# Altium schematic symbol library Schlib1.SchLib: 43 symbols
Pins are listed as number, name and electrical type; pins without a type are passive.

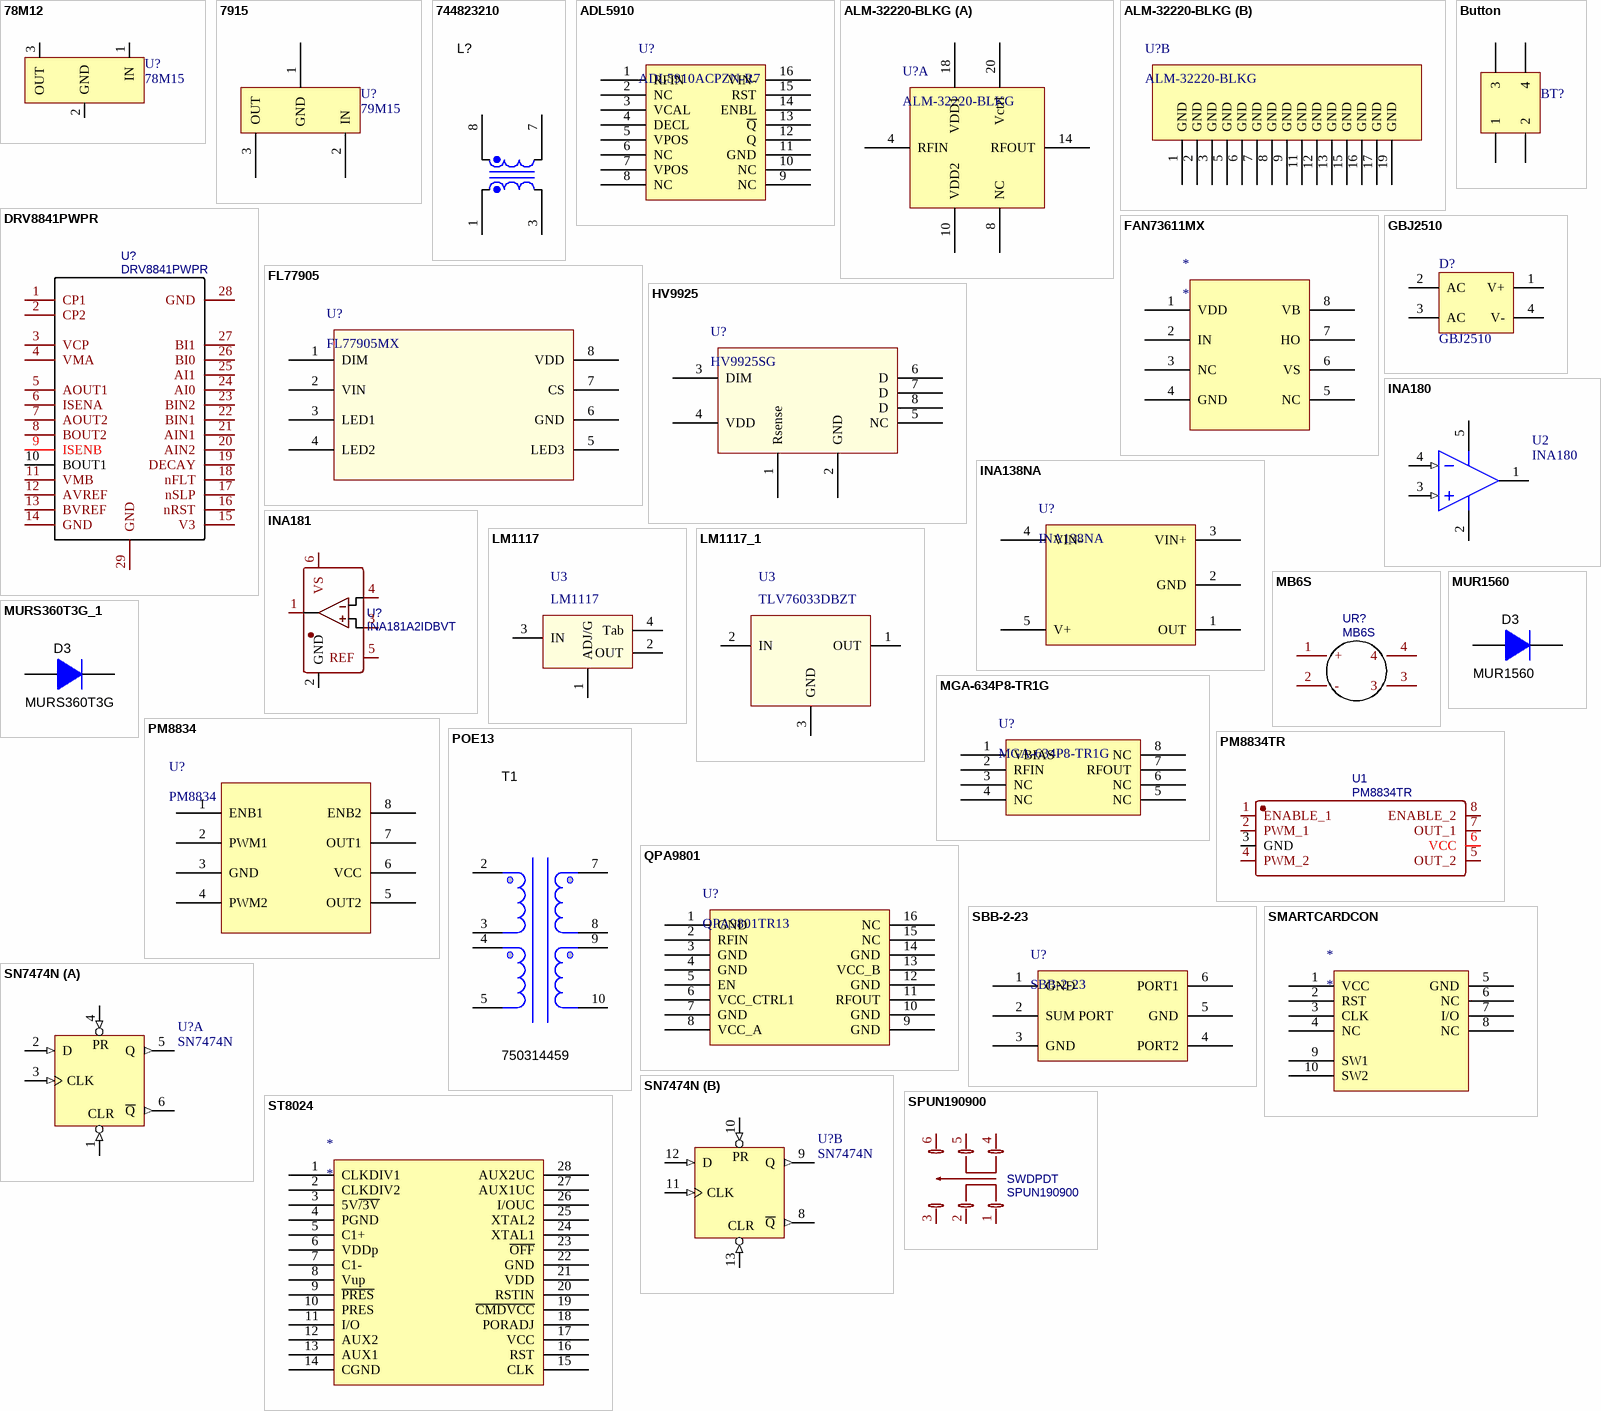
[diagram p0: symbols 78M12 to ST8024]

## 78M12
designator U?, comment 78M15
78M12 TO252_MH
footprint TO-220_FullPAK_Offset (Infineon  PG-TO220-3-31)
pins: 1 IN, 2 GND, 3 OUT

## 7915
designator U?, comment 79M15
78M12 TO252_MH
footprint TO-220AB (TO, Thru-Hole, Vertical, Heatsink Mounted; 3 In-Line Leads; Pitch 2.54 mm)
pins: 1 GND, 2 IN, 3 OUT

## 744823210
designator L?, comment 53020C  (value not drawn)
Current Sense Transformer 50kHz ~ 500kHz 7 mOhm Primary, 550 mOhm Secondary 80µH Surface Mount; Manufacturer: Wurth Elektronik; CompType: Coupled Inductor; Value: 5.5mH=/-32%; Ind_H: 5.5e-3; DCR_ohm: 0.040 ohm; Tolerance_%: 32; PartNumber: 53020C; MountType: TH; ComponentLink1Description: Datasheet URL; RoHS: Y; Publisher: Texas Instruments
footprint 5300_Series (Current Sensing Transformers)
pins: 1, 3, 7, 8

## ADL5910
designator U?, comment ADL5910ACPZN-R7
DC TO 6 GHZ, =45 DB ENVELOPE THR
pins: 1 RFIN, 2 NC, 3 VCAL, 4 DECL, 5 VPOS, 6 NC, 7 VPOS, 8 NC, 9 NC, 10 NC, 11 GND, 12 Q, 13 ~{Q}, 14 ENBL, 15 RST, 16 VIN-

## ALM-32220-BLKG
designator U?
RF Amplifier IC GSM, PCS, W-CDMA, WiMAX 1.7GHz ~ 2.7GHz 20-MCOB (7x10)
part A pins: 4 RFIN, 8 NC, 10 VDD2, 14 RFOUT, 18 VDD1, 20 Vctrl
part B pins: 1 GND, 2 GND, 3 GND, 5 GND, 6 GND, 7 GND, 8 GND, 9 GND, 11 GND, 12 GND, 13 GND, 15 GND, 16 GND, 17 GND, 19 GND

## Button
designator BT?  (value not drawn)
footprint Om2
footprint Button1
footprint Switch4
pins: 1, 2, 3, 4

## DRV8841PWPR
designator U?
BOM_Manufacturer: TI; SMT Type: Extend; BOM_Supplier: LCSC; BOM_Manufacturer Part: DRV8841PWPR; image: //image.lceda.cn/szlcsc/C36542.jpg; BOM_Supplier Part: C36542; BOM_LCSC Assembly: Yes; spicePre: U
footprint TSSOP-28EP
pins: 1 CP1, 2 CP2, 3 VCP, 4 VMA, 5 AOUT1, 6 ISENA, 7 AOUT2, 8 BOUT2, 9 ISENB, 10 BOUT1, 11 VMB, 12 AVREF, 13 BVREF, 14 GND, 15 V3, 16 nRST, 17 nSLP, 18 nFLT, 19 DECAY, 20 AIN2, 21 AIN1, 22 BIN1, 23 BIN2, 24 AI0, 25 AI1, 26 BI0, 27 BI1, 28 GND, 29 GND

## FAN73611MX
designator *
footprint SOP 8 (LQFP64)
pins: 1 VDD, 2 IN, 3 NC, 4 GND, 5 NC, 6 VS, 7 HO, 8 VB

## FL77905
designator U?, comment FL77905MX
footprint SOP 8 (LQFP64)
pins: 1 DIM, 2 VIN, 3 LED1, 4 LED2, 5 LED3, 6 GND, 7 CS, 8 VDD

## GBJ2510
designator D?
25A GLASS PASSIVATED BRIDGE RECTIFIER; Published: 24-Mar-1999; LatestRevisionDate: 17-Jul-2002; LatestRevisionNote: Re-released for DXP Platform.; PackageReference: D-46_6A; Publisher: Altium Limited; PackageDescription: Bridge Rectifier; 4 Terminals; Body 16.8 x 16.8 mm (typ); Pitch 10.67 mm
footprint GBJ2510 (25A GLASS PASSIVATED BRIDGE RECTIFIER)
pins: 1 V+, 2 AC, 3 AC, 4 V-

## HV9925
designator U?, comment HV9925SG
footprint SOP 8 (LQFP64)
pins: 1 Rsense, 2 GND, 3 DIM, 4 VDD, 5 NC, 6 D, 7 D, 8 D

## INA138NA
designator U?
footprint SOT23-5AL (SOT23, 5-Leads, Body 2.9x1.6mm, Pitch 0.95mm, Lead Span 2.8mm, IPC High Density)
pins: 1 OUT, 2 GND, 3 VIN+, 4 VIN-, 5 V+

## INA180
designator U2
Micropower Quad CMOS Voltage Comparator
footprint SO14_L (SOIC, 14-Leads, Body 8.7x3.9mm, Pitch 1.27mm, IPC High Density)
footprint SO14_M (SOIC, 14-Leads, Body 8.7x3.9mm, Pitch 1.27mm, IPC Low Density)
footprint SOT23-5AL (SOT23, 5-Leads, Body 2.9x1.6mm, Pitch 0.95mm, Lead Span 2.8mm, IPC High Density)
pins: 1 OUT (oc), 2 V- (power), 3 IN+ (in), 4 IN- (in), 5 V+ (power)

## INA181
designator U?, comment INA181A2IDBVT
BOM_Manufacturer: Texas Instruments; Contributor: LCSC; BOM_Supplier: LCSC; BOM_Supplier Part: C116200; BOM_Manufacturer Part: INA181A2IDBVT; spicePre: U
footprint SOT95P280X145-6N
pins: 1 OUT, 2 GND, 3 IN+, 4 IN-, 5 REF, 6 VS

## LM1117
designator U3
3v3; Value: LM317
footprint SOT223-4N (SOT223, 4-Leads, Body 6.5x3.5mm, Pitch 2.3mm, Lead Span 7mm, IPC Medium Density)
footprint SOT223
pins: 1 ADJ/G, 2 OUT, 3 IN, 4 Tab

## LM1117_1
designator U3, comment TLV76033DBZT
Value: LM317
footprint SOT223-4N (SOT223, 4-Leads, Body 6.5x3.5mm, Pitch 2.3mm, Lead Span 7mm, IPC Medium Density)
footprint SOT223
pins: 1 OUT, 2 IN, 3 GND

## MB6S
designator UR?
BOM_Manufacturer: STARSEA; SMT Type: Extend; BOM_Supplier: LCSC; BOM_Manufacturer Part: MB6S; BOM_Supplier Part: C83964; BOM_LCSC Assembly: Yes; spicePre: U
footprint MB6S
pins: 1 +, 2 -, 3, 4

## MGA-634P8-TR1G
designator U?
RF Amplifier IC CDMA, GSM 1.5GHz ~ 2.3GHz 8-QFN (2x2)
pins: 1 VBIAS, 2 RFIN, 3 NC, 4 NC, 5 NC, 6 NC, 7 RFOUT, 8 NC

## MUR1560
designator D3
Diode, Ultrafast, 600 V, 5 A, SMC; Manufacturer: ON Semiconductor; U/M: EA; Vf_V: 1.25; Value: 600V; Value1: 3A; Value2: 1.25V; Io_A: 3; Vr_V: 600; TJmax_C: 175; RJC_CperW: 11; SymbolVersion: 2008-12-08; PartNumber: MUR1560; PackageReference: SMC; CompType: Diode; MountType: SMT; Type: Ultrafast; RoHS: Y; Published: 2008-06-26; Publisher: Texas Instruments; LatestRevisionDate: 2015-06-16; ComponentLink1Description: Datasheet link; ComponentLink1URL: http://www.onsemi.com/pub/Collateral/MURS320T3-D.PDF; Supplier 1: Digi-Key; Supplier 2: Mouser; Supplier Part Number 2: 863-MURS360T3G; Supplier 3: Farnell; Supplier Part Number 3: 1459153
footprint TO-220-2 (TO, Thru-Hole, Vertical, Heatsink Mounted; 3 In-Line Leads; Pitch 2.54 mm)
pins: 1 K, 3 A

## MURS360T3G_1
designator D3, comment MURS360T3G
Diode, Ultrafast, 600 V, 3 A, SMC; Manufacturer: ON Semiconductor; U/M: EA; Vf_V: 1.25; Value: 600V; Value1: 3A; Value2: 1.25V; Io_A: 3; Vr_V: 600; TJmax_C: 175; RJC_CperW: 11; SymbolVersion: 2008-12-08; PartNumber: MURS360T3G; PackageReference: SMC; CompType: Diode; MountType: SMT; Type: Ultrafast; RoHS: Y; Published: 2008-06-26; Publisher: Texas Instruments; LatestRevisionDate: 2015-06-16; ComponentLink1Description: Datasheet link; ComponentLink1URL: http://www.onsemi.com/pub/Collateral/MURS320T3-D.PDF; Supplier 1: Digi-Key; Supplier Part Number 1: MURS360T3GOSCT-ND; Supplier 2: Mouser; Supplier Part Number 2: 863-MURS360T3G; Supplier 3: Farnell; Supplier Part Number 3: 1459153
signal-integrity model Diode
simulation model MURS360T3
footprint SMC (Molded Diode, 2-Leads, Body 6.9x5.8mm, IPC Medium Density, based on OnSemi component dimensions and land patterns)
pins: 1 K, 2 A

## PM8834
designator U?
Low-Side Gate Driver IC Non-Inverting 8-SOIC
footprint SOIC127P600-8AL (SOIC, 8-Leads, Body 4.9x3.9mm, Pitch 1.27mm, IPC High Density)
pins: 1 ENB1, 2 PWM1, 3 GND, 4 PWM2, 5 OUT2, 6 VCC, 7 OUT1, 8 ENB2

## PM8834TR
designator U1
BOM_Manufacturer: STMicroelectronics; Contributor: LCSC; BOM_Supplier: LCSC; BOM_Supplier Part: C221495; BOM_Manufacturer Part: PM8834TR; spicePre: U
footprint SOP 8 (LQFP64)
pins: 1 ENABLE_1, 2 PWM_1, 3 GND, 4 PWM_2, 5 OUT_2, 6 VCC, 7 OUT_1, 8 ENABLE_2

## POE13
designator T1, comment 750314459
XFMR, SMT 45uH, 750314459; Manufacturer: Wurth; PCB DECAL: Used in BOM report.  Use Y or N.; Area: 164.465 sq.mm; Value: 45uH; ModifyDate: 9/23/2014; PartNumber: 750314459; Size: 12.7mmX12.95mmX5.98mm(h)
footprint XFMR_Wurth_ER11p5_12pin_SMT (Recommended land pattern for Wurth ER11p5 - SMT)
pins: 2, 3, 4, 5, 7, 8, 9, 10

## QPA9801
designator U?, comment QPA9801TR13
RF Amplifier 1805-2400MHz Gn 20dB P1dB 26.4dBm
pins: 1 GND, 2 RFIN, 3 GND, 4 GND, 5 EN, 6 VCC_CTRL1, 7 GND, 8 VCC_A, 9 GND, 10 GND, 11 RFOUT, 12 GND, 13 VCC_B, 14 GND, 15 NC, 16 NC

## SBB-2-23
designator U?
Power Splitter/Combiner
pins: 1 GND, 2 SUM PORT, 3 GND, 4 PORT2, 5 GND, 6 PORT1

## SMARTCARDCON
designator *
footprint Smartcart_CON
pins: 1 VCC, 2 RST, 3 CLK, 4 NC, 5 GND, 6 NC, 7 I/O, 8 NC, 9 SW1, 10 SW2

## SN7474N
designator U?
Dual D-Type Positive-Edge-Triggered Flip-Flop with Preset and Clear; ComponentAvailability: Obsolete; Published: 8-Jun-2000; LatestRevisionDate: 04-Mar-2005; LatestRevisionNote: Stylized 3D Model Added.; DatasheetVersion: Mar-1988; PackageVersion: Oct-1995; PackageReference: N014; Publisher: Altium Limited; PackageDescription: DIP; 14 Leads; Row Spacing 7.62 mm; Pitch 2.54 mm; ComponentLink1Description: Manufacturer Link; ComponentLink1URL: http://www.ti.com/; ComponentLink2Description: Datasheet; ComponentLink2URL: http://www-s.ti.com/sc/ds/sn7474.pdf
footprint N014 (DIP; 14 Leads; Row Spacing 7.62 mm; Pitch 2.54 mm)
3D model N014 (DIP; 14 Leads; Row Spacing 7.62 mm; Pitch 2.54 mm)
signal-integrity model SN7474N
pins on every part: 7 GND (power) hidden to GND, 14 VCC (power) hidden to VCC
part A pins: 1 CLR (in), 2 D (in), 3 CLK (in), 4 PR (in), 5 Q (out), 6 ~{Q} (out)
part B pins: 8 ~{Q} (out), 9 Q (out), 10 PR (in), 11 CLK (in), 12 D (in), 13 CLR (in)

## SPUN190900
designator SWDPDT
BOM_Manufacturer: ALPS Electric; Contributor: LCSC; BOM_Supplier: LCSC; BOM_Supplier Part: C278339; BOM_Manufacturer Part: SPUN190900; spicePre: S
footprint SW-DIP-P42X10
pins: 1, 2, 3, 4, 5, 6

## ST8024
designator *
footprint SOIC-SO28_N (SOIC, 28-Leads, Body 17.9x7.5mm, Pitch 1.27mm, IPC Medium Density)
pins: 1 CLKDIV1, 2 CLKDIV2, 3 5V~{/3V}, 4 PGND, 5 C1+, 6 VDDp, 7 C1-, 8 Vup, 9 ~{PRES}, 10 PRES, 11 I/O, 12 AUX2, 13 AUX1, 14 CGND, 15 CLK, 16 RST, 17 VCC, 18 PORADJ, 19 ~{CMDVCC}, 20 RSTIN, 21 VDD, 22 GND, 23 ~{OFF}, 24 XTAL1, 25 XTAL2, 26 I/OUC, 27 AUX1UC, 28 AUX2UC

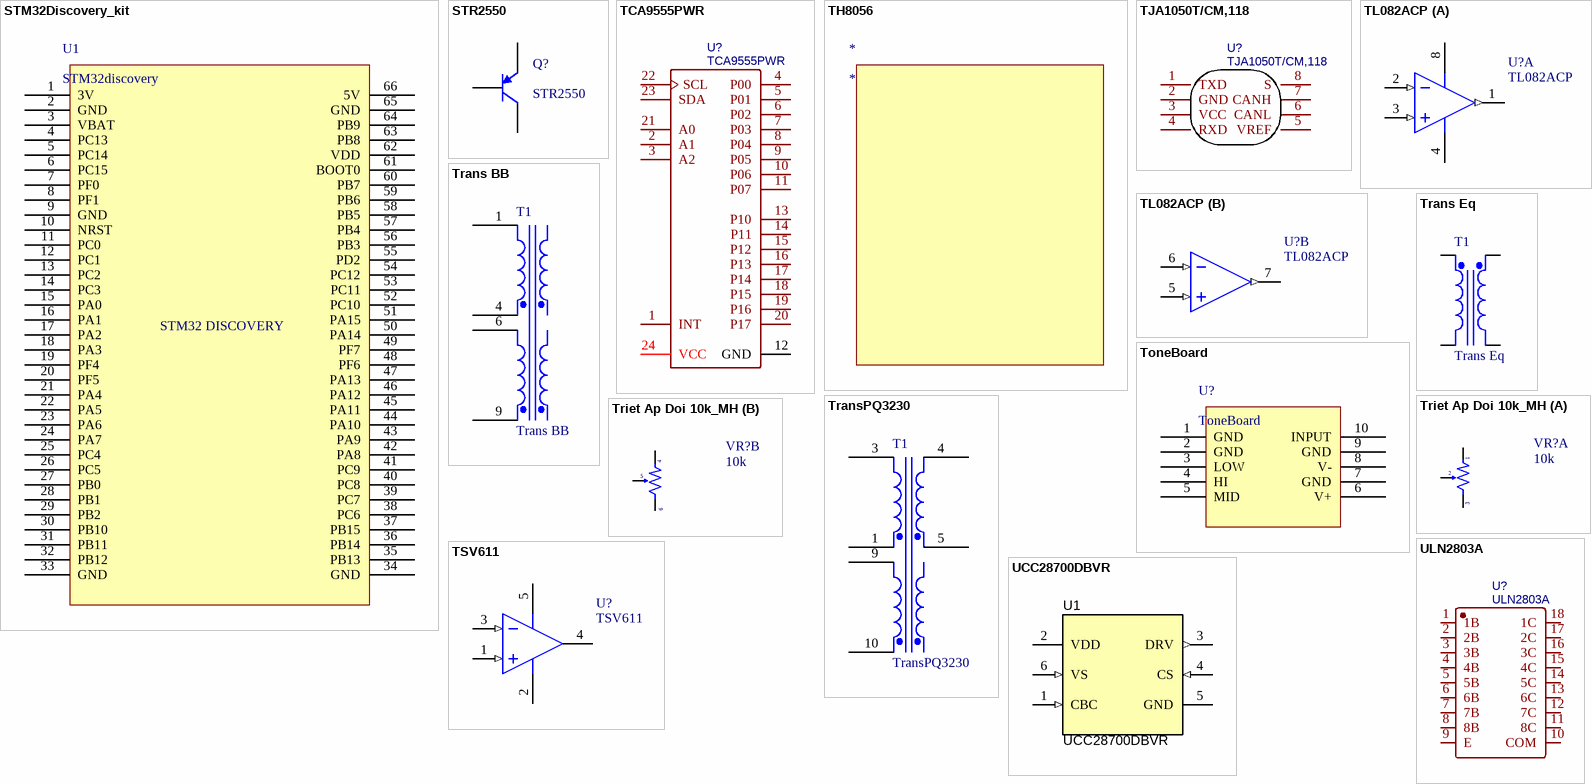
[diagram p1: symbols STM32Discovery_kit to ULN2803A]

## STM32Discovery_kit
designator U1, comment STM32discovery
footprint STM32discovery_kit
pins: 1 3V, 2 GND, 3 VBAT, 4 PC13, 5 PC14, 6 PC15, 7 PF0, 8 PF1, 9 GND, 10 NRST, 11 PC0, 12 PC1, 13 PC2, 14 PC3, 15 PA0, 16 PA1, 17 PA2, 18 PA3, 19 PF4, 20 PF5, 21 PA4, 22 PA5, 23 PA6, 24 PA7, 25 PC4, 26 PC5, 27 PB0, 28 PB1, 29 PB2, 30 PB10, 31 PB11, 32 PB12, 33 GND, 34 GND, 35 PB13, 36 PB14, 37 PB15, 38 PC6, 39 PC7, 40 PC8, 41 PC9, 42 PA8, 43 PA9, 44 PA10, 45 PA11, 46 PA12, 47 PA13, 48 PF6, 49 PF7, 50 PA14, 51 PA15, 52 PC10, 53 PC11, 54 PC12, 55 PD2, 56 PB3, 57 PB4, 58 PB5, 59 PB6, 60 PB7, 61 BOOT0, 62 VDD, 63 PB8, 64 PB9, 65 GND, 66 5V
text: STM32 DISCOVERY

## STR2550
designator Q?
PNP Bipolar Transistor; Published: 8-Jun-2000; LatestRevisionDate: 29-May-2009; LatestRevisionNote: IPC-7351 Footprint Added.; PackageVersion: Aug-1999; PackageReference: SOT-23B; Publisher: Altium Limited; PackageDescription: 3-Pin SOT-23 Package 0.95 mm Pitch, 2.4 mm Lead Span
footprint MYSOT-23 (SOT23, 3-Leads, Body 2.9x1.3mm, Pitch 0.95mm, Lead Span 2.4mm, IPC Medium Density)
pins: 1 B, 2 C, 3 E

## TCA9555PWR
designator U?
BOM_Manufacturer Part: ?; spicePre: U
footprint TSSOP-24
pins: 1 INT, 2 A1, 3 A2, 4 P00, 5 P01, 6 P02, 7 P03, 8 P04, 9 P05, 10 P06, 11 P07, 12 GND, 13 P10, 14 P11, 15 P12, 16 P13, 17 P14, 18 P15, 19 P16, 20 P17, 21 A0, 22 SCL, 23 SDA, 24 VCC

## TH8056
designator *

## TJA1050T/CM,118
designator U?
BOM_Manufacturer: NXP; SMT Type: Basic; BOM_Supplier: LCSC; BOM_Manufacturer Part: TJA1050T/CM,118; BOM_LCSC Assembly: Yes; image: //image.lceda.cn/szlcsc/C6952.jpg; BOM_Supplier Part: C6952; spicePre: U
footprint SOP 8
pins: 1 TXD, 2 GND, 3 VCC, 4 RXD, 5 VREF, 6 CANL, 7 CANH, 8 S

## TL082ACP
designator U?
JFET-Input Operational Amplifier; Published: 17-Jul-2002; LatestRevisionDate: 06-Jun-2005; LatestRevisionNote: Stylized 3D Model Added.; DatasheetVersion: 1988; PackageReference: 626-05; Publisher: Altium Limited; PackageDescription: DIP; 8 Leads; Row Spacing 7.62 mm; Pitch 2.54 mm; ComponentLink1Description: Manufacturer Link; ComponentLink1URL: http://www.onsemi.com/site/products/parametrics/0,4446,251,00.html
footprint DIP8
part A pins: 1 OUT (out), 2 IN- (in), 3 IN+ (in), 4 V- (power), 8 V+ (power)
part B pins: 5 IN+ (in), 6 IN- (in), 7 OUT (out)

## ToneBoard
designator U?
footprint ToneBoard
pins: 1 GND, 2 GND, 3 LOW, 4 HI, 5 MID, 6 V+, 7 GND, 8 V-, 9 GND, 10 INPUT

## Trans BB
designator T1
Buck-boost Transformer (Ideal); Published: 25-Jan-2001; LatestRevisionDate: 17-Jul-2002; LatestRevisionNote: Re-released for DXP Platform.; PackageReference: TRF_8; Publisher: Altium Limited; PackageDescription: Transformer; 8 Leads
footprint EC42 (ferrit core)
simulation model IDEAL4W (Spice Subcircuit)
pins: 1, 4, 6, 9

## Trans Eq
designator T1
Transformer (Equivalent Circuit Model); Published: 8-Jun-2000; LatestRevisionDate: 17-Jul-2002; LatestRevisionNote: Re-released for DXP Platform.; PackageReference: TRF_4; Publisher: Altium Limited; PackageDescription: Transformer; 4 Leads
footprint AS3010 (S3010-E-0150-120-S)
pins: 1 Pri+, 2 Pri-, 3 Sec+, 4 Sec-

## TransPQ3230
designator T1
Buck-boost Transformer (Ideal); Published: 25-Jan-2001; LatestRevisionDate: 17-Jul-2002; LatestRevisionNote: Re-released for DXP Platform.; PackageReference: TRF_8; Publisher: Altium Limited; PackageDescription: Transformer; 8 Leads
footprint PQ3230
simulation model IDEAL4W (Spice Subcircuit)
pins: 1, 3, 4, 5, 9, 10

## Triet Ap Doi 10k_MH
designator VR?, comment 10k
Triet Ap Doi 10k
footprint VR2-B
part A pins: 1, 2, 3
part B pins: 4, 5, 6

## TSV611
designator U?
Micropower Quad CMOS Voltage Comparator; Published: 24-Aug-2001; LatestRevisionDate: 13-Apr-2006; LatestRevisionNote: IPC-7351 Footprint Added.; DatasheetVersion: Sep-1998; PackageVersion: Sep-1998; PackageReference: SO14; Publisher: Altium Limited; PackageDescription: 14-Pin Small Outline Integrated Circuit 1.27 mm Pitch; Code_IPC: SOIC127P600-14; ComponentLink1Description: Manufacturer Link; ComponentLink1URL: http://www.st.com/; ComponentLink2Description: Datasheet; ComponentLink2URL: http://www.st.com/stonline/products/literature/ds/4065/ts339.pdf
footprint SOT353-5L (SOT353, 5-Leads, Body 2x1.3mm, Pitch 0.65mm, Lead Span 2.1mm, IPC High Density)
pins: 1 IN+ (in), 2 V- (power), 3 IN- (in), 4 OUT (oc), 5 V+ (power)

## UCC28700DBVR
designator U1
Constant-Voltage, Constant-Current Controller With Primary-Side Regulation, DBV0006A; Alternate PartNumber: UCC28700DBVT; Manufacturer: Texas Instruments; SymbolCreator: a0799628; SizeArea_mm2: 8.12; SizeAreaWB_mm2: 14.82; SizeX_mm: 2.8; SizeY_mm: 2.9; SizeZ_mm: 1.45; CompType: IC; U/M: EA; SymbolVersion: 2016-2-18; PartNumber: UCC28700DBVR; PackageReference: DBV0006A; PackageDescription: SOT-6; MountType: SMT; ComponentLink1Description: Datasheet Link; ComponentLink1URL: http://www.ti.com/lit/gpn/ucc28700; RoHS: Y; Publisher: Texas Instruments; LatestRevisionDate: 2016-06-14; Alternate Manufacturer: Texas Instruments
footprint DBV0006A_N
footprint DBV0006A_M
footprint DBV0006A_L
pins: 1 CBC (in), 2 VDD (power), 3 DRV (out), 4 CS (in), 5 GND (power), 6 VS (in)

## ULN2803A
designator U?
BOM_Manufacturer: Sinotech Mixic Elec; Contributor: LCSC; SMT Type: Extend; BOM_Supplier: LCSC; BOM_Supplier Part: C181731; BOM_Manufacturer Part: ULN2803A; BOM_LCSC Assembly: Yes; spicePre: U
footprint SOIC-18_300MIL
pins: 1 1B, 2 2B, 3 3B, 4 4B, 5 5B, 6 6B, 7 7B, 8 8B, 9 E, 10 COM, 11 8C, 12 7C, 13 6C, 14 5C, 15 4C, 16 3C, 17 2C, 18 1C